# Altium footprint library CONN_USB.PcbLib: 34 footprints (part 1 of 3)
Each footprint in its own frame and in the unit in brackets; x right, y up, seen from the top. Pads: shape width x height; smd on the part's side, far side on the other; paste and mask are expansions set on the pad; w line width, h text height; cw(c..) or ccw(c..) is an arc to the next point about the centre after c.
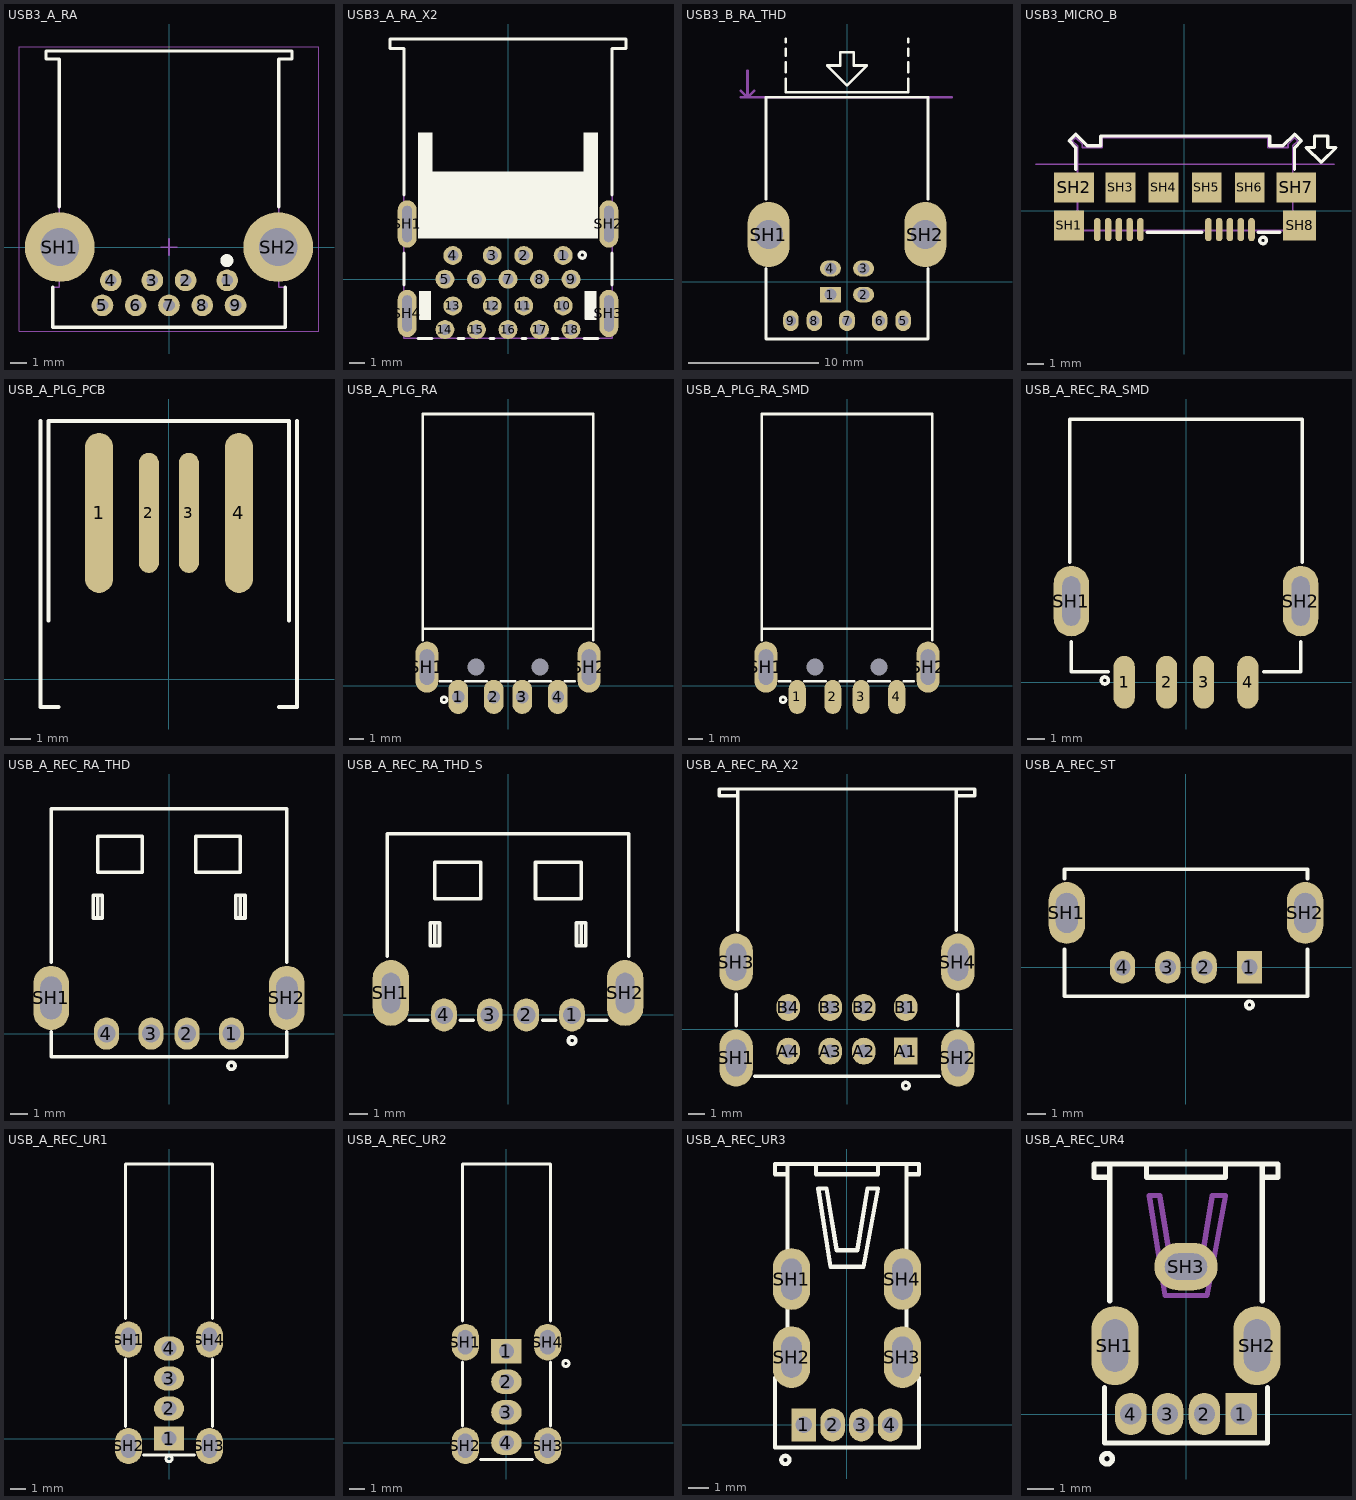
[diagram p0: the footprints below, top view; thin cyan lines are the x and y axes]

## USB3_A_RA [mm] "USB 3.0 Receptecal, Type A, Top Mount, Through Hole, Horizontal"
height 16.1
pads (11):
  round 1.3 hole 0.7: 1(3.5,-2) 2(1,-2) 3(-1,-2) 4(-3.5,-2) 5(-4,-3.5) 6(-2,-3.5) 7(0,-3.5) 8(2,-3.5) 9(4,-3.5)
  round 4.2 hole 2.3: SH1(-6.57,0) SH2(6.57,0)
Top Overlay:
  circle w0.4: c3.48,-0.813 r0.193
  lines w0.2: -6.985,-2.413 -6.985,-4.826 6.985,-4.826 6.985,-2.413 ; -6.604,2.413 -6.604,11.303 -7.391,11.303 -7.391,11.786 7.391,11.786 7.391,11.303 6.604,11.303 6.604,2.413
Mechanical 13:
  lines w0.1: -7.391,11.303 -7.391,11.786 7.391,11.786 7.391,11.303 6.604,11.303 6.604,-2.413 6.985,-2.413 6.985,-4.826 -6.985,-4.826 -6.985,-2.413 -6.604,-2.413 -6.604,11.303 -7.391,11.303
Mechanical 15:
  lines w0.05: -9.017,-5.055 -9.017,12.04 9.017,12.04 9.017,-5.055 -9.017,-5.055
  lines w0.1: -0.5,0 0.5,0 ; 0,-0.5 0,0.5
3D body "USB1075-30-P-B.stp": height 7.77, standoff -3.6, extent -7.799,-4.8 7.799,11.8

## USB3_A_RA_X2 [mm] "USB 3.0 Dual Receptecal, Type A, Top Mount, Through Hole, Horizontal"
height 16.1
pads (22):
  round 1.2 hole 0.7 mask+0.075: 1(3.5,1.5) 2(1,1.5) 3(-1,1.5) 4(-3.5,1.5) 5(-4,0) 6(-2,0) 7(0,0) 8(2,0) 9(4,0) 10(3.5,-1.7) 11(1,-1.7) 12(-1,-1.7) 13(-3.5,-1.7) 14(-4,-3.2) 15(-2,-3.2) 16(0,-3.2) 17(2,-3.2) 18(4,-3.2)
  oval 1.2x3 hole 0.6 slot 2.3 at 90 deg: SH1(-6.4,3.5) SH2(6.4,3.5) SH3(6.4,-2.18) SH4(-6.4,-2.18)
Top Overlay:
  circle w0.2: c4.715,1.524 r0.2
  region: 5.6,-0.78 4.9,-0.78 4.9,-2.55 5.6,-2.55
  region: -4.9,-0.78 -5.6,-0.78 -5.6,-2.55 -4.9,-2.55
  region: 5.7,9.3 5.7,2.6 -5.7,2.6 -5.7,9.3 -4.8,9.3 -4.8,6.8 4.8,6.8 4.8,9.3
  lines w0.05: -5.6,-2.55 -4.9,-2.55 -4.9,-0.78 -5.6,-0.78 -5.6,-2.55 ; 4.9,-2.55 4.9,-0.78 5.6,-0.78 5.6,-2.55 4.9,-2.55
  lines w0.2: -6.604,-0.381 -6.604,1.651 ; -6.604,5.334 -6.604,14.63 -7.493,14.63 -7.493,15.24 7.493,15.24 7.493,14.63 6.604,14.63 6.604,5.334 ; -5.715,-3.759 -4.826,-3.759 ; -3.175,-3.759 -2.794,-3.759 ; -1.143,-3.759 -0.889,-3.759 ; 0.889,-3.759 1.143,-3.759 ; 2.794,-3.759 3.175,-3.759 ; 4.826,-3.759 5.715,-3.759 ; 6.604,-0.381 6.604,1.651
Mechanical 13:
  lines w0.1: -7.493,14.63 -6.604,14.63 -6.604,-3.759 6.604,-3.759 6.604,14.63 7.493,14.63 7.493,15.24 -7.493,15.24 -7.493,14.63
Mechanical 15:
  lines w0.1: -0.5,0 0.5,0 ; 0,-0.5 0,0.5
3D body "USB1100-30-A.stp": height 15.34, standoff -2.54, extent -7.5,-3.759 7.5,15.241

## USB3_B_RA_THD [mm] "CONN, USB3.0, TYPE B, THD"
pads (11):
  rect 1.6x1.2 hole 0.9: 1(-1.27,-1)
  oval 1.6x1.2 hole 0.9: 2(1.27,-1) 3(1.27,1) 4(-1.27,1)
  oval 1.2x1.6 hole 0.8: 5(4.3,-3) 6(2.5,-3) 7(0,-3) 8(-2.5,-3) 9(-4.3,-3)
  oval 3.2x5 hole 2.2: SH1(-6,3.6) SH2(6,3.6)
Top Overlay:
  lines w0.2: -6.2,1 -6.2,-4.4 6.2,-4.4 6.2,1 ; -6.2,6.3 -6.2,14.1 6.2,14.1 6.2,6.3 ; -4.699,15.524 -4.699,14.508 4.699,14.508 4.699,15.524 ; -4.699,16.032 -4.699,16.794 ; -4.699,17.302 -4.699,17.81 ; -4.699,18.318 -4.699,18.572 ; 4.699,16.032 4.699,16.794 ; 4.699,17.302 4.699,17.81 ; 4.699,18.318 4.699,18.572 ; -1.524,16.54 -0.508,16.54 -0.508,17.556 0.508,17.556 0.508,16.54 1.524,16.54 0,15.016 -1.524,16.54
Mechanical 13:
  lines w0.2: -8.128,14.1 8.001,14.1 ; -8.128,14.608 -7.62,14.1 ; -7.62,16.132 -7.62,14.1 ; -7.112,14.608 -7.62,14.1
  text "Edge of Board" at -6.6,14.8 h1
3D body "usb3type-b.stp": height 13.2, standoff -2.36, extent -7.199,-4.3 7.199,14

## USB3_MICRO_B [mm] "CONN, USB3, Micro B, CMS1811-010010 (HOSIDEN), GSB343133HR (AMPHENOL)"
pads (18):
  oval 0.4x1.4 smd: 1(4.05,-1.15) 2(3.4,-1.15) 3(2.75,-1.15) 4(2.1,-1.15) 5(1.45,-1.15) 6(-2.65,-1.15) 7(-3.3,-1.15) 8(-3.95,-1.15) 9(-4.6,-1.15) 10(-5.25,-1.15)
  rect 1.8x1.8 smd: SH1(-6.95,-0.9) SH3(-3.85,1.4) SH4(-1.25,1.4) SH5(1.35,1.4) SH6(3.95,1.4)
  rect 2.4x1.8 smd: SH2(-6.65,1.4) SH7(6.75,1.4)
  rect 2x1.8 smd: SH8(6.95,-0.9)
Top Overlay:
  circle w0.2: c4.75,-1.8 r0.2
  lines w0.2: -6.55,2.5 -6.55,3.8 -6.95,4.2 ; -2.25,-1.3 1.05,-1.3 ; 4.45,-1.3 5.75,-1.3 ; 6.65,2.5 6.65,3.8 7.05,4.2 6.65,4.6 5.95,3.9 5.15,3.9 5.15,4.5 -5.05,4.5 -5.05,3.9 -5.85,3.9 -6.55,4.6 ; -6.95,4.2 -6.55,4.6 ; -6.95,4.2 -6.95,4.2 ; -6.55,4.6 -6.55,4.6 ; 7.35,3.8 8.25,2.9 9.15,3.8 8.65,3.8 8.65,4.5 7.85,4.5 7.85,3.8 7.35,3.8
Mechanical 13:
  lines w0.1: -8.95,2.8 9.05,2.8 ; -7.35,0.9 -7.35,1.9 -6.45,1.9 -6.45,3.9 -6.75,4.2 -6.55,4.4 -6.15,4 -6.15,3.8 -4.95,3.8 -4.95,4.4 5.05,4.4 5.05,3.8 6.25,3.8 6.25,4 6.65,4.4 6.85,4.2 6.55,3.9 6.55,1.9 6.85,1.9 6.85,0.9 6.55,0.9 6.55,-1.2 -6.45,-1.2 -6.45,0.9 -7.35,0.9
  text "PCB EDGE" at 9.25,2.4 h0.8
3D body "usb3microAB.step": height 2.8, standoff -0.2, extent -7.05,-1.45 6.75,4.25

## USB_A_PLG_PCB [mm] "CONN, USB, A, best pcb thickness: 2mm"
height 6.5
pads (4):
  oval 1.4x8 smd: 1(-3.485,8.3) 4(3.5,8.3)
  oval 1x6 smd: 2(-1,8.3) 3(1,8.3)
Top Overlay:
  lines w0.2: -6.4,12.9 -6.4,-1.4 -5.5,-1.4 ; -6,2.933 -6,12.9 6,12.9 6,2.933 ; 5.5,-1.4 6.4,-1.4 6.4,12.9
Mechanical 13:
  text "pcb thickness: 2.0~2.2mm" at -5.351,3.067 h1

## USB_A_PLG_RA [mm] "CONN, USB, Type A, PLUG, Right Angle, SMD, THD"
height 4.5
pads (8):
  oval 1.4x2.4 / inner oval 1.4x1.8 / far side oval 1.4x1.8 hole 0.9 mask+0.1: 1(-3.5,-0.8) 2(-1,-0.8) 3(1,-0.8) 4(3.5,-0.8)
  oval 1.6x3.6 hole 1 slot 2.5 at 90 deg: SH1(-5.7,1.3) SH2(5.7,1.3)
  round 0.8 hole 1.2 unplated: ""(-2.25,1.3) ""(2.25,1.3)
Top Overlay:
  circle w0.2: c-4.5,-1 r0.2
  lines w0.2: -6,3.2 -6,19.1 6,19.1 6,3.2 ; -6,4 6,4 ; -4.8,0.3 -4,0.3 ; -3,0.3 -1.5,0.3 ; -0.5,0.3 0.5,0.3 ; 1.5,0.3 3,0.3 ; 4,0.3 4.7,0.3
Mechanical 13:
  lines w0.1: -6,4 6,4
  text "PCB Edge" at 5.173,4.473 h0.25
3D body "14381.STEP": height 3.13, standoff -2.67, extent -6.303,-1.3 6.303,19

## USB_A_PLG_RA_SMD [mm] "CONN, USB, Type A, PLUG, Right Angle, SMD, THD"
height 4.5
pads (8):
  oval 1.2x2.4 smd mask+0.1: 1(-3.5,-0.8) 2(-1,-0.8) 3(1,-0.8) 4(3.5,-0.8)
  oval 1.6x3.6 hole 1 slot 2.5 at 90 deg: SH1(-5.7,1.3) SH2(5.7,1.3)
  round 0.8 hole 1.2 unplated: ""(-2.25,1.3) ""(2.25,1.3)
Top Overlay:
  circle w0.2: c-4.5,-1 r0.2
  lines w0.2: -6,3.2 -6,19.1 6,19.1 6,3.2 ; -6,4 6,4 ; -4.8,0.3 -4,0.3 ; -3,0.3 -1.5,0.3 ; -0.5,0.3 0.5,0.3 ; 1.5,0.3 3,0.3 ; 4,0.3 4.7,0.3
Mechanical 13:
  lines w0.1: -6,4 6,4
  text "PCB Edge" at 5.173,4.473 h0.25
3D body "14381.STEP": height 3.13, standoff -2.67, extent -6.303,-1.3 6.303,19

## USB_A_REC_RA_SMD [mm] "CONN, USB A, Receptacle, RIGHT ANGLE, SMD"
pads (6):
  oval 1.2x3 smd: 1(-3.5,0) 2(-1.1,0) 3(1,0) 4(3.5,0)
  oval 2x4 hole 1 slot 2.8 at 90 deg: SH1(-6.5,4.6) SH2(6.5,4.6)
Top Overlay:
  circle w0.2: c-4.6,0.1 r0.2
  lines w0.2: -6.6,6.8 -6.6,14.9 6.6,14.9 6.6,6.8 ; -6.5,2.3 -6.5,0.6 -4.4,0.6 ; 4.4,0.6 6.5,0.6 6.5,2.3
3D body "USB MADEGI SMD .stp": height 7.7, standoff -2.62, extent -7.3,-0.206 7.2,14.806

## USB_A_REC_RA_THD [mm] "CONN, USB A, Receptacle, RIGHT ANGLE, THD"
height 7
pads (6):
  oval 1.4x1.8 hole 1: 1(3.5,0) 2(1,0) 3(-1,0) 4(-3.5,0)
  oval 2x3.6 hole 1.2 slot 2.4 at 90 deg: SH1(-6.6,2) SH2(6.6,2)
Top Overlay:
  circle w0.2: c3.5,-1.8 r0.2
  lines w0.2: -6.6,0.1 -6.6,-1.3 6.6,-1.3 6.6,0.1 ; -6.6,4 -6.6,12.6 6.6,12.6 6.6,4 ; -3.995,6.475 -3.995,7.745 ; -3.995,6.475 -3.741,6.475 -3.741,7.745 -3.995,7.745 ; -3.995,6.475 -4.249,6.475 -4.249,7.745 -3.995,7.745 ; 4,6.475 4,7.745 ; 4,6.475 4.255,6.475 4.255,7.745 4,7.745 ; 4,6.475 3.746,6.475 3.746,7.745 4,7.745 ; -3.995,9.047 -1.495,9.047 -1.495,11.047 -3.995,11.047 -3.995,9.047 ; 1.5,9.047 4,9.047 4,11.047 1.5,11.047 1.5,9.047
3D body "User Library-USB-A-01.step": height 6.95, standoff -4.2, extent -7.9,-1.2 7.9,12.5

## USB_A_REC_RA_THD_S [mm] "CONN, USB A, Receptacle, RIGHT ANGLE, THD SHORT"
height 7
pads (6):
  oval 1.4x1.8 hole 1: 1(3.5,0) 2(1,0) 3(-1,0) 4(-3.5,0)
  oval 2x3.6 hole 1 slot 2.2 at 90 deg: SH1(-6.4,1.2) SH2(6.4,1.2)
Top Overlay:
  circle w0.2: c3.5,-1.4 r0.2
  lines w0.2: -6.6,3.2 -6.6,9.9 6.6,9.9 6.6,3.2 ; -5.4,-0.3 -4.4,-0.3 ; -2.6,-0.3 -1.9,-0.3 ; 1.9,-0.3 2.6,-0.3 ; 4.4,-0.3 5.4,-0.3 ; -3.995,3.775 -4.249,3.775 -4.249,5.045 -3.995,5.045 ; -3.995,3.775 -3.741,3.775 -3.741,5.045 -3.995,5.045 ; -3.995,3.775 -3.995,5.045 ; 4,3.775 3.746,3.775 3.746,5.045 4,5.045 ; 4,3.775 4.255,3.775 4.255,5.045 4,5.045 ; 4,3.775 4,5.045 ; -3.995,6.347 -3.995,8.347 -1.495,8.347 -1.495,6.347 -3.995,6.347 ; 1.5,6.347 1.5,8.347 4,8.347 4,6.347 1.5,6.347
3D body "USB1125-GF-B.stp": height 6.56, standoff -2.45, extent -6.55,-0.2 6.55,9.8

## USB_A_REC_RA_X2 [mm] "CONN, USB A, Right Angle, DUAL"
height 15.82
pads (12):
  rect 1.4x1.6 hole 0.8: A1(3.5,-1.3)
  oval 1.4x1.6 hole 0.8: A2(1,-1.3) A3(-1,-1.3) A4(-3.5,-1.3) B1(3.5,1.3) B2(1,1.3) B3(-1,1.3) B4(-3.5,1.3)
  oval 2x3.4 hole 1.2 slot 2.2 at 90 deg: SH1(-6.6,-1.7) SH2(6.6,-1.7) SH3(-6.6,4) SH4(6.6,4)
Top Overlay:
  circle w0.2: c3.5,-3.35 r0.2
  lines w0.2: -6.6,0.2 -6.6,2.1 ; -6.5,5.9 -6.5,14.3 ; -6.5,13.9 -7.6,13.9 -7.6,14.3 -6.5,14.3 ; -5.5,-2.8 5.5,-2.8 ; 6.5,5.9 6.5,14.3 ; 6.5,13.9 7.6,13.9 7.6,14.3 6.5,14.3 ; 6.6,0.2 6.6,2.1 ; -6.5,14.3 6.5,14.3
Mechanical 13:
  lines w0.1: -6.57,14.3 6.57,14.3
  text "PCB Edge" at 6.15,13.932 h0.2
3D body "14378.STEP": height 16.3, standoff -3.1, extent -7.851,-2.7 7.849,14.898

## USB_A_REC_ST [mm] "CONN, USB A, Receptacle, STRAIGHT, THD"
height 15
pads (6):
  rect 1.4x1.8 hole 0.9: 1(3.5,0)
  oval 1.4x1.8 hole 0.9: 2(1,0) 3(-1,0) 4(-3.5,0)
  oval 2x3.4 hole 1.2 slot 2.2 at 90 deg: SH1(-6.57,3) SH2(6.57,3)
Top Overlay:
  circle w0.2: c3.5,-2.075 r0.2
  lines w0.2: -6.7,1 -6.7,-1.6 6.7,-1.6 6.7,1 ; -6.7,4.9 -6.7,5.4 6.7,5.4 6.7,4.9
3D body "14382.STEP": height 14, standoff -3.99, extent -7.992,-2.365 7.992,5.275

## USB_A_REC_UR1 [mm] "CONN, USB A, upright, Right Angle, VERTICAL, THD"
height 13.83
pads (8):
  rect 2x1.6 hole 1: 1(0,0)
  oval 2x1.6 hole 1: 2(0,2) 3(0,4) 4(0,6)
  oval 1.8x2.4 hole 1 slot 1.6 at 90 deg: SH1(-2.7,6.6) SH2(-2.7,-0.5) SH3(2.7,-0.5) SH4(2.7,6.6)
Top Overlay:
  circle w0.2: c0,-1.35 r0.2
  lines w0.2: -2.9,0.8 -2.9,5.3 ; -2.9,8 -2.9,18.3 2.9,18.3 2.9,8 ; -1.7,-1.1 1.7,-1.1 ; 2.9,0.8 2.9,5.3
3D body "usb_a-usb_a-e.stp": height 14.25, standoff -3.9, extent -3.556,-1.025 3.564,18.225

## USB_A_REC_UR2 [mm] "CONN, USB A, upright, Right Angle, VERTICAL, THD"
height 13.83
pads (8):
  rect 2x1.6 hole 1: 1(0,6)
  oval 2x1.6 hole 1: 2(0,4) 3(0,2) 4(0,0)
  oval 1.8x2.4 hole 1 slot 1.6 at 90 deg: SH1(-2.7,6.6) SH2(-2.7,-0.2) SH3(2.7,-0.2) SH4(2.7,6.6)
Top Overlay:
  circle w0.2: c3.9,5.2 r0.2
  lines w0.2: -2.9,1.1 -2.9,5.3 ; -2.9,8 -2.9,18.3 2.9,18.3 2.9,8 ; -1.7,-1.1 1.7,-1.1 ; 2.9,1.1 2.9,5.3
3D body "USB_A_REC_upright_73725-0110blfc.stp": height 14.45, standoff -3.36, extent -3.56,-1.1 3.56,18.6

## USB_A_REC_UR3 [mm] "CONN, USB A, upright, Right Angle, VERTICAL, THD"
height 13.83
pads (8):
  rect 1.2x1.6 hole 0.8: 1(-2.1,0)
  oval 1.2x1.6 hole 0.8: 2(-0.7,0) 3(0.7,0) 4(2.1,0)
  oval 1.8x3 hole 1 slot 2 at 90 deg: SH1(-2.7,7.1) SH2(-2.7,3.3) SH3(2.7,3.3) SH4(2.7,7.1)
Top Overlay:
  circle w0.2: c-3,-1.7 r0.2
  lines w0.2: -3.5,2.3 -3.5,-1.1 3.5,-1.1 3.5,2.3 ; -2.9,4.6 -2.9,5.8 ; -2.9,8.4 -2.9,12.7 ; -2.9,12.2 -3.5,12.2 -3.5,12.7 -2.9,12.7 ; -1.5,12.7 -1.5,12.2 1.5,12.2 1.5,12.7 ; 2.9,4.6 2.9,5.8 ; 2.9,8.4 2.9,12.7 ; 2.9,12.2 3.5,12.2 3.5,12.7 2.9,12.7 ; -2.9,12.7 2.9,12.7 ; -1.4,11.5 -1,11.5 -0.5,8.5 0.5,8.5 1,11.5 1.5,11.5 0.8,7.7 -0.8,7.7 -1.4,11.5
3D body "USB_A_REC_RA_V_673298000.stp": height 14.52, standoff -3.35, extent -3.4,-1.1 3.6,12.58

## USB_A_REC_UR4 [mm] "CONN, USB A, upright, Right Angle, VERTICAL, THD"
height 13.83
pads (7):
  rect 1.2x1.6 hole 0.8: 1(2.1,0)
  oval 1.2x1.6 hole 0.8: 2(0.7,0) 3(-0.7,0) 4(-2.1,0)
  oval 1.8x3 hole 1 slot 2 at 90 deg: SH1(-2.7,2.6) SH2(2.7,2.6)
  oval 2.4x1.8 hole 1 slot 1.6 at 0 deg: SH3(0,5.6)
Top Overlay:
  circle w0.2: c-3,-1.7 r0.2
  lines w0.2: -3.1,1 -3.1,-1.1 3.1,-1.1 3.1,1 ; -2.9,4.3 -2.9,9.5 ; -2.9,9 -3.5,9 -3.5,9.5 -2.9,9.5 ; -1.5,9.5 -1.5,9 1.5,9 1.5,9.5 ; 2.9,4.3 2.9,9.5 ; 2.9,9 3.5,9 3.5,9.5 2.9,9.5 ; -2.9,9.5 2.9,9.5
Mechanical 13:
  lines w0.2: -1.4,8.3 -0.8,4.5 0.8,4.5 1.5,8.3 1,8.3 0.5,5.3 -0.5,5.3 -1,8.3 -1.4,8.3
3D body "usb-a-upright.step": height 14.52, standoff -1.95, extent -3.33,-1.1 3.53,9.28